# Altium footprint library DEV_Modules.PcbLib: 2 footprints
Each footprint in its own frame and in the unit in brackets; x right, y up, seen from the top. Pads: shape width x height; smd on the part's side, far side on the other; paste and mask are expansions set on the pad; w line width, h text height; cw(c..) or ccw(c..) is an arc to the next point about the centre after c.
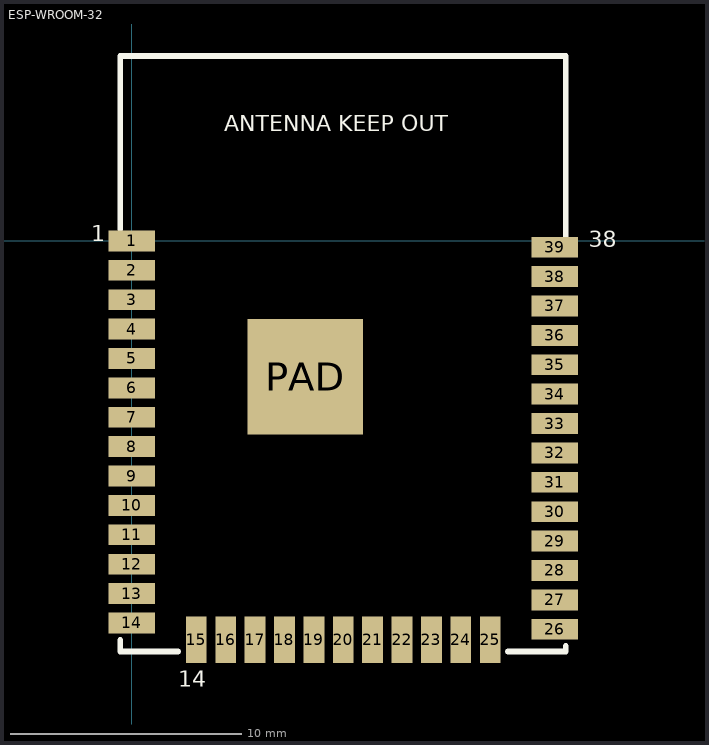
[diagram p0: the footprints below, top view; thin cyan lines are the x and y axes]

## ESP-WROOM-32 [mm] "OEM_Module"
pads (40):
  rect 2x0.9 smd: 1(0,0) 2(0,-1.27) 3(0,-2.54) 4(0,-3.81) 5(0,-5.08) 6(0,-6.35) 7(0,-7.62) 8(0,-8.89) 9(0,-10.16) 10(0,-11.43) 11(0,-12.7) 12(0,-13.97) 13(0,-15.24) 14(0,-16.51) 26(18.27,-16.78) 27(18.27,-15.51) 28(18.27,-14.24) 29(18.27,-12.97) 30(18.27,-11.7) 31(18.27,-10.43) 32(18.27,-9.16) 33(18.27,-7.89) 34(18.27,-6.62) 35(18.27,-5.35) 36(18.27,-4.08) 37(18.27,-2.81) 38(18.27,-1.54) 39(18.27,-0.27)
  rect 0.9x2 smd: 15(2.785,-17.24) 16(4.055,-17.24) 17(5.325,-17.24) 18(6.595,-17.24) 19(7.865,-17.24) 20(9.135,-17.24) 21(10.405,-17.24) 22(11.675,-17.24) 23(12.945,-17.24) 24(14.215,-17.24) 25(15.485,-17.24)
  rect 5x5 smd mask-2: PAD(7.498,-5.869)
Top Overlay:
  lines w0.254: -0.5,-17.25 -0.5,-17.75 2,-17.75 ; -0.5,0.5 -0.5,8 18.75,8 18.75,0 ; 16.25,-17.75 18.75,-17.75 18.75,-17.5
  text "ANTENNA KEEP OUT" at 4,4.5 h1.2
  text "38" at 19.75,-0.5 h1.2
  text "14" at 2,-19.5 h1.2
  text "1" at -1.75,-0.25 h1.2

## LOLIN_ESP32 [mm] "ESP32_DEV_Module"